# Altium footprint library BarrierBlock6.35mm.PcbLib: 1 footprints
Each footprint in its own frame and in the unit in brackets; x right, y up, seen from the top. Pads: shape width x height; smd on the part's side, far side on the other; paste and mask are expansions set on the pad; w line width, h text height; cw(c..) or ccw(c..) is an arc to the next point about the centre after c.
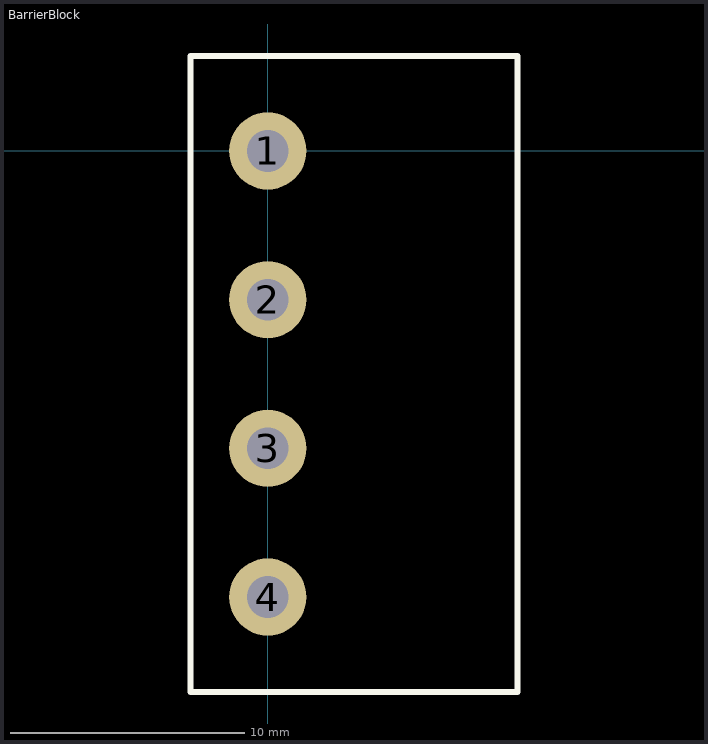
[diagram p0: the footprint, top view; thin cyan lines are the x and y axes]

## BarrierBlock [mil]
pads (4):
  round 130 hole 70: 1(0,0) 2(0,-250) 3(0,-500) 4(0,-750)
Top Overlay:
  lines w10: -130,-910 420,-910 420,160 -130,160 -130,-910